# Altium footprint library SW-SPE-CTS_220-AMA16.PcbLib: 1 footprints
Each footprint in its own frame and in the unit in brackets; x right, y up, seen from the top. Pads: shape width x height; smd on the part's side, far side on the other; paste and mask are expansions set on the pad; w line width, h text height; cw(c..) or ccw(c..) is an arc to the next point about the centre after c.
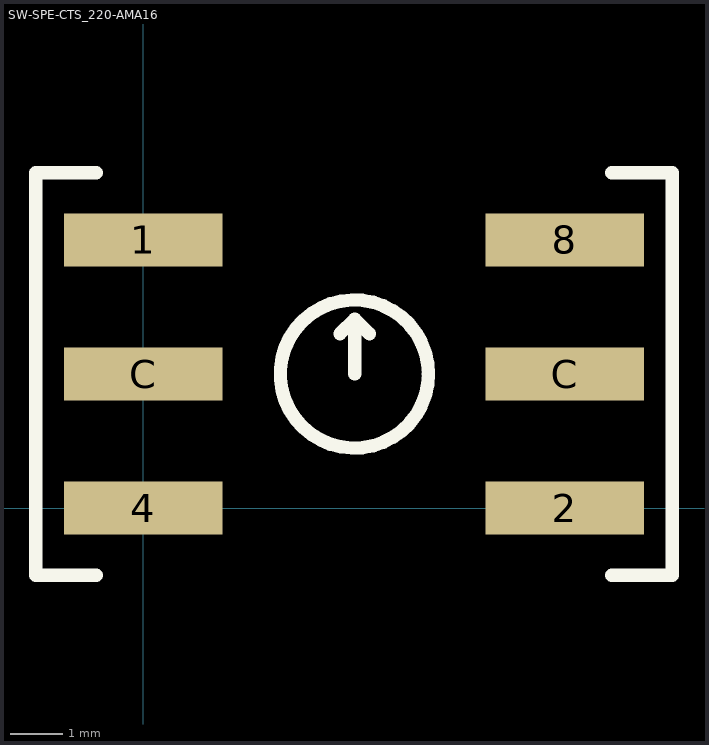
[diagram p0: the footprint, top view; thin cyan lines are the x and y axes]

## SW-SPE-CTS_220-AMA16 [mm]
pads (6):
  rect 3x1 smd: 1(0,5.08) 2(7.985,0) 4(0,0) 8(7.985,5.08) C(0,2.54) C(7.985,2.54)
Top Overlay:
  circle w0.254: c3.999,2.54 r1.403
  lines w0.25: -0.889,-1.27 -2.032,-1.27 -2.032,6.35 -0.889,6.35 ; 3.726,3.302 4.005,3.581 ; 4.005,2.54 4.005,3.581 ; 4.285,3.302 4.005,3.581 ; 8.874,-1.27 10.017,-1.27 10.017,6.35 8.874,6.35
3D body: height 4.25, standoff 0, extent -0.936,-1.16 9.064,6.24